# EAGLE library part CON_M05X2 (library EL311_V1_2020)
Header 5x2 Standard 10-pin dual row 0.1" header. Commonly used with AVR-ISP. Use with Spark Fun Electronics SKU: PRT-00778
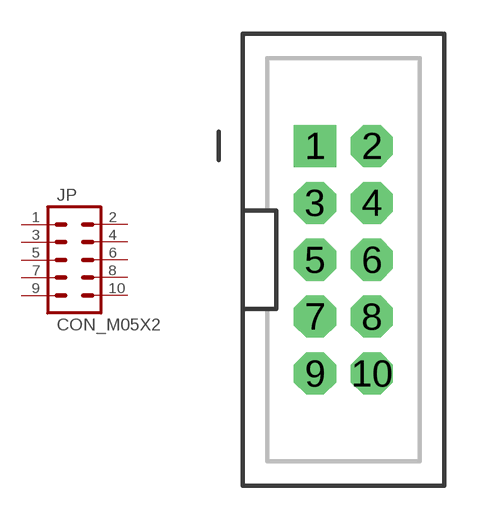
[diagram p0: symbol with the pads of SPARKFUN-CONNECTORS_2X5-SHROUDED; footprint SPARKFUN-CONNECTORS_2X5-SHROUDED]

Designator prefix JP

## CON_M05X2SHD  [SPARKFUN-CONNECTORS_2X5-SHROUDED]
1  1  pas
2  2  pas
3  3  pas
4  4  pas
5  5  pas
6  6  pas
7  7  pas
8  8  pas
9  9  pas
10  10  pas

## Footprint SPARKFUN-CONNECTORS_2X5-SHROUDED (pad centres in mm)
drill 1.016 pad 1.88 square: 1 -1.27,5.08
drill 1.016 pad 1.88 octagon: 2 1.27,5.08; 3 -1.27,2.54; 4 1.27,2.54; 5 -1.27,0; 6 1.27,0; 7 -1.27,-2.54; 8 1.27,-2.54; 9 -1.27,-5.08; 10 1.27,-5.08